# EAGLE library part 74LVC8T245 (library jack_IC)
8 channel bidirectional 1.2-5.5v logic level shifter with combined OE (datasheet) <https://assets.nexperia.com/documents/data-sheet/74LVC_LVCH8T245.pdf>
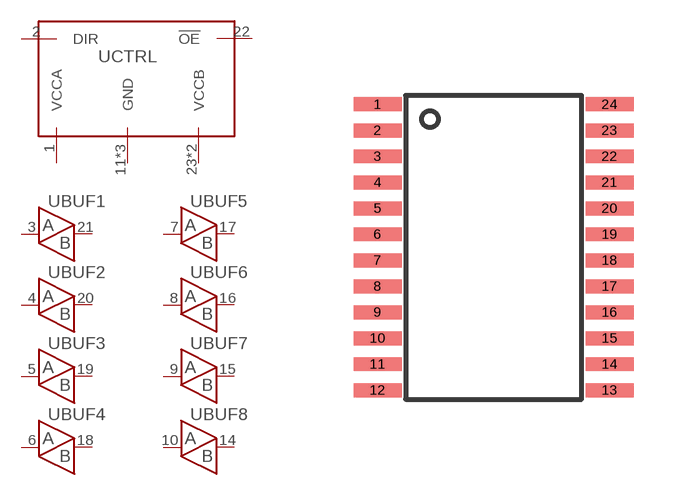
[diagram p21: symbol with the pads of TSSOP-24; footprint TSSOP-24]

Designator prefix U; gates CTRL=CTRL_LLSHIFTER_WITH_NOE_DIR BUF1=BUFFER_BIDIR BUF2=BUFFER_BIDIR BUF3=BUFFER_BIDIR BUF4=BUFFER_BIDIR BUF5=BUFFER_BIDIR BUF6=BUFFER_BIDIR BUF7=BUFFER_BIDIR BUF8=BUFFER_BIDIR

## 74LVC8T245  [TSSOP-24]
1  CTRL:VCCA
2  CTRL:DIR
3  BUF1:A
4  BUF2:A
5  BUF3:A
6  BUF4:A
7  BUF5:A
8  BUF6:A
9  BUF7:A
10  BUF8:A
11  CTRL:GND
12  CTRL:GND
13  CTRL:GND
14  BUF8:B
15  BUF7:B
16  BUF6:B
17  BUF5:B
18  BUF4:B
19  BUF3:B
20  BUF2:B
21  BUF1:B
22  CTRL:!OE
23  CTRL:VCCB
24  CTRL:VCCB

## Footprint TSSOP-24 (pad centres in mm)
smd 1.2 x 0.35: 1 -2.9,3.575; 2 -2.9,2.925; 3 -2.9,2.275; 4 -2.9,1.625; 5 -2.9,0.975; 6 -2.9,0.325; 7 -2.9,-0.325; 8 -2.9,-0.975; 9 -2.9,-1.625; 10 -2.9,-2.275; 11 -2.9,-2.925; 12 -2.9,-3.575; 13 2.9,-3.575; 14 2.9,-2.925; 15 2.9,-2.275; 16 2.9,-1.625; 17 2.9,-0.975; 18 2.9,-0.325; 19 2.9,0.325; 20 2.9,0.975; 21 2.9,1.625; 22 2.9,2.275; 23 2.9,2.925; 24 2.9,3.575